# EAGLE library part LED_MENTOR_1905 (library 1A-meinLib)
Ø2mm 3-fach LEDs, übereinander, stapelbar, Typ 1905.nnnn, MENTOR
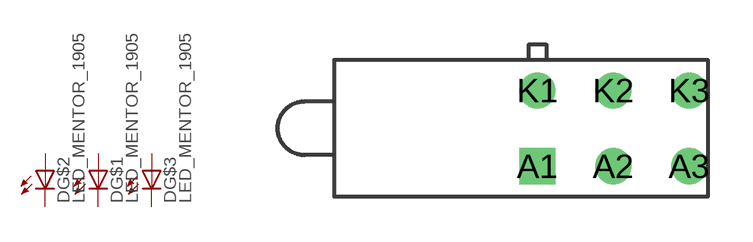
[diagram p348: symbol with the pads of LED_3FACH_MENTOR_1905; footprint LED_3FACH_MENTOR_1905]

Designator prefix D; gates G$1=LED G$2=LED G$3=LED

## LED_MENTOR_1905  [LED_3FACH_MENTOR_1905]
A1  G$1:A  pas
A2  G$2:A  pas
A3  G$3:A  pas
K1  G$1:C  pas
K2  G$2:C  pas
K3  G$3:C  pas

## Footprint LED_3FACH_MENTOR_1905 (pad centres in mm)
Ø2mm 3-fach LEDs, übereinander, stapelbar, Typ 1905.nnnn, MENTOR
drill 0.7 square: A1 0,-1.27
drill 0.7 round: A2 2.54,-1.27; A3 5.08,-1.27; K1 0,1.27; K2 2.54,1.27; K3 5.08,1.27